# Altium footprint library SmartSensors.PcbLib: 40 footprints (part 2 of 3)
Each footprint in its own frame and in the unit in brackets; x right, y up, seen from the top. Pads: shape width x height; smd on the part's side, far side on the other; paste and mask are expansions set on the pad; w line width, h text height; cw(c..) or ccw(c..) is an arc to the next point about the centre after c.
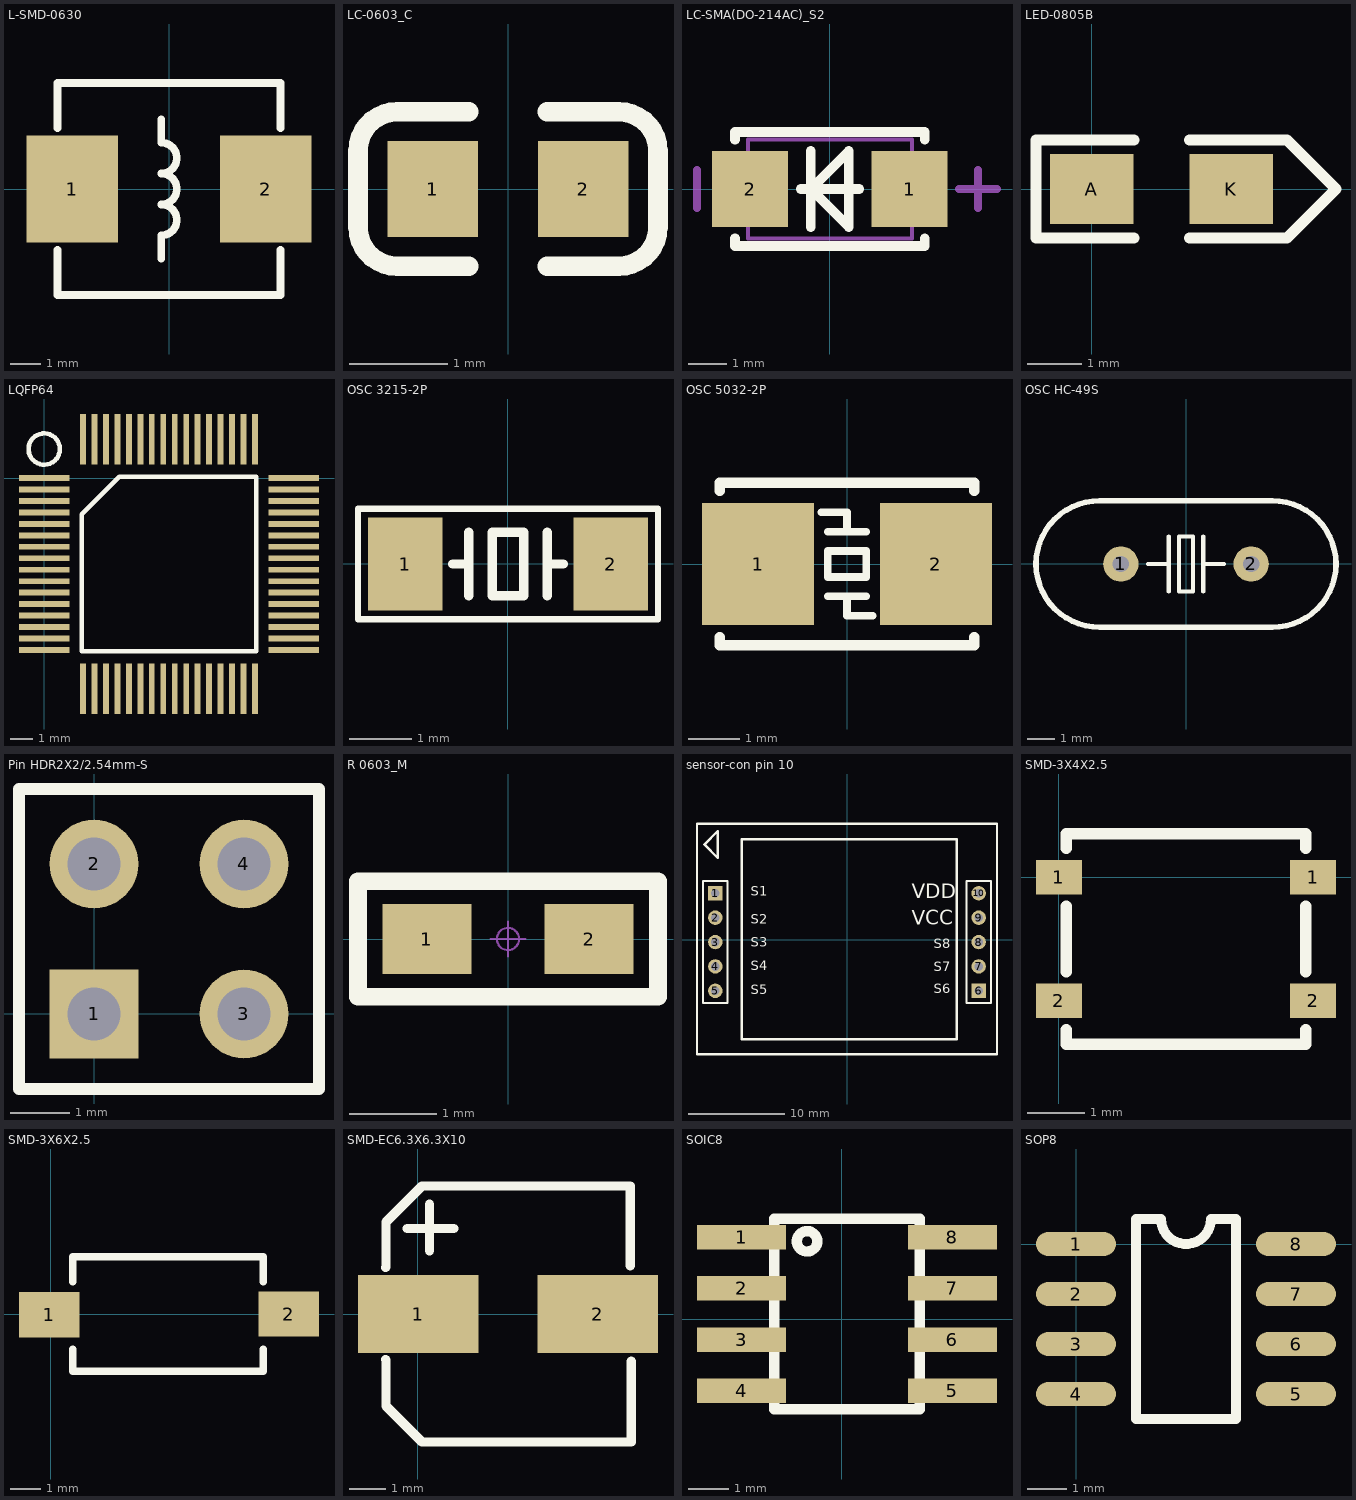
[diagram p1: the footprints below, top view; thin cyan lines are the x and y axes]

## L-SMD-0630 [mm]
pads (2):
  rect 3x3.5 smd: 1(-3.175,0) 2(3.175,0)
Top Overlay:
  lines w0.254: -3.658,-2.007 -3.658,-3.48 3.658,-3.48 3.658,-2.007 ; -3.658,2.007 -3.658,3.48 3.658,3.48 3.658,2.007 ; -0.254,-2.286 -0.254,-1.524 ccw(c-0.254,-1.016) -0.254,-0.508 ccw(c-0.254,0) -0.254,0.508 ccw(c-0.254,1.016) -0.254,1.524 -0.254,2.286
3D body "SMD-0630.STEP": height 3.05, standoff 0.02, extent -3.475,-3.3 3.475,3.3

## LC-0603_C [mm]
pads (2):
  rect 0.93x0.98 smd: 1(-0.77,0) 2(0.77,0)
Top Overlay:
  lines w0.2: -0.4,-0.79 -1.135,-0.79 cw(c-1.135,-0.39) -1.535,-0.39 -1.535,0.39 cw(c-1.135,0.39) -1.135,0.79 -0.4,0.79 ; 0.4,-0.79 1.135,-0.79 ccw(c1.135,-0.39) 1.535,-0.39 1.535,0.39 ccw(c1.135,0.39) 1.135,0.79 0.4,0.79
3D body "User Library-0603 SMD Capacitor.STEP": height 0.3, standoff 0, extent -0.8,-0.4 0.8,0.4

## LC-SMA(DO-214AC)_S2 [mm]
pads (2):
  rect 2x2 smd: 1(2.1,0) 2(-2.1,0)
Top Overlay:
  lines w0.254: -2.5,-1.3 -2.5,-1.5 2.5,-1.5 2.5,-1.3 ; -2.5,1.3 -2.5,1.5 2.5,1.5 2.5,1.3 ; -0.77,0 0.77,0 ; -0.5,-1 -0.5,1 ; -0.5,0 0.5,-1 0.5,1 -0.5,0
Mechanical 13:
  lines w0.1: -2.16,-1.3 2.16,-1.3 2.16,1.3 -2.16,1.3 -2.16,-1.3
Mechanical 15:
  lines w0.203: -3.5,-0.5 -3.5,0.5 ; 3.4,0 4.4,0 ; 3.9,-0.5 3.9,0.5

## LED-0805B [mil]
pads (2):
  rect 60x50 smd: A(0,0) K(100,0)
Top Overlay:
  lines w8: 30,-35 -40,-35 -40,35 30,35 ; 70,-35 140,-35 175,0 140,35 70,35
3D body "13.STEP": height 31.69, standoff -0.04, extent 10,-24.64 88.74,24.64

## LQFP64 [mm]
pads (64):
  rect 2.2x0.254 smd: 1(0,0) 2(0,-0.5) 3(0,-1) 4(0,-1.5) 5(0,-2) 6(0,-2.5) 7(0,-3) 8(0,-3.5) 9(0,-4) 10(0,-4.5) 11(0,-5) 12(0,-5.5) 13(0,-6) 14(0,-6.5) 15(0,-7) 16(0,-7.5) 33(10.9,-7.5) 34(10.9,-7) 35(10.9,-6.5) 36(10.9,-6) 37(10.9,-5.5) 38(10.9,-5) 39(10.9,-4.5) 40(10.9,-4) 41(10.9,-3.5) 42(10.9,-3) 43(10.9,-2.5) 44(10.9,-2) 45(10.9,-1.5) 46(10.9,-1) 47(10.9,-0.5) 48(10.9,0)
  rect 0.254x2.2 smd: 17(1.7,-9.2) 18(2.2,-9.2) 19(2.7,-9.2) 20(3.2,-9.2) 21(3.7,-9.2) 22(4.2,-9.2) 23(4.7,-9.2) 24(5.2,-9.2) 25(5.7,-9.2) 26(6.2,-9.2) 27(6.7,-9.2) 28(7.2,-9.2) 29(7.7,-9.2) 30(8.2,-9.2) 31(8.7,-9.2) 32(9.2,-9.2) 49(9.2,1.7) 50(8.7,1.7) 51(8.2,1.7) 52(7.7,1.7) 53(7.2,1.7) 54(6.7,1.7) 55(6.2,1.7) 56(5.7,1.7) 57(5.2,1.7) 58(4.7,1.7) 59(4.2,1.7) 60(3.7,1.7) 61(3.2,1.7) 62(2.7,1.7) 63(2.2,1.7) 64(1.7,1.7)
Top Overlay:
  circle w0.2: c0,1.27 r0.684
  lines w0.2: 1.635,-7.565 1.635,-1.57 3.27,0.065 9.265,0.065 9.265,-7.565 1.635,-7.565

## OSC 3215-2P [mm]
pads (2):
  rect 1.2x1.5 smd: 1(-1.65,0) 2(1.65,0)
Top Overlay:
  lines w0.1: -2.413,-0.889 -2.413,0.889 2.413,0.889 2.413,-0.889 -2.413,-0.889
  lines w0.152: -0.889,0 -0.635,0 ; -0.635,-0.508 -0.635,0.508 ; 0.635,-0.508 0.635,0.508 ; 0.635,0 0.889,0 ; -0.254,-0.508 0.254,-0.508 0.254,0.508 -0.254,0.508 -0.254,-0.508
3D body "OSC 3215-2P.STEP": height 0.61, standoff -0.01, extent -1.473,-0.762 1.727,0.738

## OSC 5032-2P [mm]
pads (2):
  rect 2.2x2.4 smd: 1(-1.75,0) 2(1.75,0)
Top Overlay:
  lines w0.152: -0.508,1.016 0,1.016 0,0.635 ; -0.381,-0.635 0.381,-0.635 ; -0.381,0.635 0.381,0.635 ; 0,-0.635 0,-1.016 0.381,-1.016 0.508,-1.016 ; -0.381,-0.254 -0.381,0.254 0.381,0.254 0.381,-0.254 -0.381,-0.254
  lines w0.203: -2.5,-1.437 -2.5,-1.6 2.5,-1.6 2.5,-1.437 ; -2.5,1.437 -2.5,1.6 2.5,1.6 2.5,1.437
3D body "OSC 5032-2P.STEP": height 0.86, standoff 0.04, extent -2.5,-1.524 2.5,1.676

## OSC HC-49S [mm]
pads (2):
  round 1.3 hole 0.6: 1(-2.4,0) 2(2.4,0)
Top Overlay:
  lines w0.152: -1.397,0 -0.635,0 ; -0.635,-1.016 -0.635,1.016 ; 0.635,-1.016 0.635,1.016 ; 0.635,0 1.397,0 ; -0.254,-1.016 -0.254,1.016 0.254,1.016 0.254,-1.016 -0.254,-1.016
  lines w0.203: -3.175,2.325 ccw(c-3.2,0) -3.173,-2.325 3.175,-2.325 ccw(c3.2,0) 3.173,2.325 -3.175,2.325
3D body "OSC HC-49S.STEP": height 4.13, standoff -3.45, extent -5.525,-2.286 5.525,2.364

## Pin HDR2X2/2.54mm-S [mm] "Connector; Header; 2x2 Position"
pads (4):
  rect 1.5x1.5 hole 0.9: 1(0,0)
  round 1.5 hole 0.9: 2(0,2.54) 3(2.54,0) 4(2.54,2.54)
Top Overlay:
  lines w0.2: -1.27,-1.27 3.81,-1.27 3.81,3.81 -1.27,3.81 -1.27,-1.27
3D body "HEADER.STEP": height 7.58, standoff -2.94, extent 1.27,1.27 3.81,3.81
3D body "HEADER.STEP": height 7.58, standoff -2.94, extent -1.27,1.27 1.27,3.81
3D body "HEADER.STEP": height 7.58, standoff -2.94, extent 1.27,-1.27 3.81,1.27
3D body "HEADER.STEP": height 7.58, standoff -2.94, extent -1.27,-1.27 1.27,1.27

## R 0603_M [mil]
pads (2):
  rect 40x31.5 smd: 1(-36.5,0) 2(36.5,0)
Top Overlay:
  lines w8: -67.5,-26 -67.5,26 67.5,26 67.5,-26 -67.5,-26
Mechanical 15:
  circle w1: c0,0 r5
  lines w1: -7.87,0 7.87,0 ; 0,-7.87 0,7.87
3D body "R 0603.STEP": height 15.79, standoff -0.13, extent -31.5,-15.75 31.5,15.75

## sensor-con pin 10 [mm]
pads (10):
  rect 1.5x1.5 hole 0.9: 1(-13.716,4.826) 6(13.716,-5.334)
  round 1.5 hole 0.9: 2(-13.716,2.286) 3(-13.716,-0.254) 4(-13.716,-2.794) 5(-13.716,-5.334) 7(13.716,-2.794) 8(13.716,-0.254) 9(13.716,2.286) 10(13.716,4.826)
Top Overlay:
  lines w0.2: -14.986,-6.604 -12.446,-6.604 -12.446,6.096 -14.986,6.096 -14.986,-6.604 ; 12.446,-6.604 12.446,6.096 14.986,6.096 14.986,-6.604 12.446,-6.604
  lines w0.254: -15.621,12.046 -15.621,-11.938 15.621,-11.938 15.621,12.065 -15.621,12.065 ; -14.859,9.906 -13.462,8.509 -13.462,11.303 -14.859,9.906 ; -10.94,-10.368 -10.94,10.46 11.412,10.46 11.412,-10.368 -10.94,-10.368
  text "VDD" at 6.731,4.318 h1.52
  text "VCC" at 6.731,1.524 h1.52
  text "S1" at -10.033,4.572 h1
  text "S2" at -10.033,1.651 h1
  text "S3" at -10.033,-0.762 h1
  text "S5" at -10.033,-5.715 h1
  text "S4" at -10.033,-3.175 h1
  text "S6" at 9.017,-5.588 h1
  text "S8" at 9.017,-0.889 h1
  text "S7" at 9.017,-3.302 h1

## SMD-3X4X2.5 [mm]
pads (4):
  rect 0.8x0.6 smd: 1(0,0) 1(4.445,0) 2(0,-2.159) 2(4.445,-2.159)
Top Overlay:
  lines w0.2: 0.127,-2.667 0.127,-2.921 4.318,-2.921 4.318,-2.667 ; 0.127,-1.651 0.127,-0.508 ; 0.127,0.508 0.127,0.762 4.318,0.762 4.318,0.508 ; 4.318,-1.651 4.318,-0.508
3D body: height 1.7, standoff 0, extent 0.127,-2.921 4.318,0.762

## SMD-3X6X2.5 [mm]
pads (2):
  rect 2x1.5 smd: 1(-0.059,-0.02) 2(7.874,0)
Top Overlay:
  lines w0.254: 0.725,-1.168 0.725,-1.9 7.025,-1.9 7.025,-1.168 ; 0.725,1.067 0.725,1.9 7.025,1.9 7.025,1.067
3D body "SMD-3X6X2.5.STEP": height 2.59, standoff -0.03, extent -0.19,-1.778 7.81,1.722

## SMD-EC6.3X6.3X10 [mm]
pads (2):
  rect 3.3x2.132 smd: 1(0.021,0) 2(4.921,0)
Top Overlay:
  lines w0.008: -0.879,-1.244 -0.814,-1.31 -0.814,-2.565 0.121,-3.5 5.836,-3.5
  lines w0.254: -0.879,-1.244 -0.865,-1.259 -0.865,-2.514 0.121,-3.5 5.826,-3.5 5.836,-3.49 ; -0.879,1.27 -0.865,1.285 -0.865,2.515 0.121,3.5 5.81,3.5 5.81,1.321 ; -0.286,2.337 0.984,2.337 ; 0.324,1.728 0.324,2.998 ; 5.836,-3.5 5.836,-1.295
3D body "ALU-D_6.3x6.6x5.4.STEP": height 5.4, standoff 0, extent -1.087,-3.3 5.913,3.3

## SOIC8 [mil]
pads (8):
  rect 87x24 smd: 1(-98,80) 2(-98,30) 3(-98,-20) 4(-98,-70) 5(108,-70) 6(108,-20) 7(108,30) 8(108,80)
Top Overlay:
  circle w10: c-34,76 r10
  lines w10: -66,-88 76,-88 76,98 -66,98 -66,-88

## SOP8 [mil]
pads (8):
  oval 80x24 smd: 1(0,0) 2(0,-50) 3(0,-100) 4(0,-150) 5(220,-150) 6(220,-100) 7(220,-50) 8(220,0)
Top Overlay:
  lines w10: 60,-175 60,25 85,25 ccw(c110,25) 135,25 160,25 160,-175 60,-175
3D body "SOP8.STEP": height 62.99, standoff 0, extent -8.94,-173.82 228.93,23.81